# Altium schematic symbol library FTDI.SchLib: 3 symbols
Pins are listed as number, name and electrical type; pins without a type are passive.

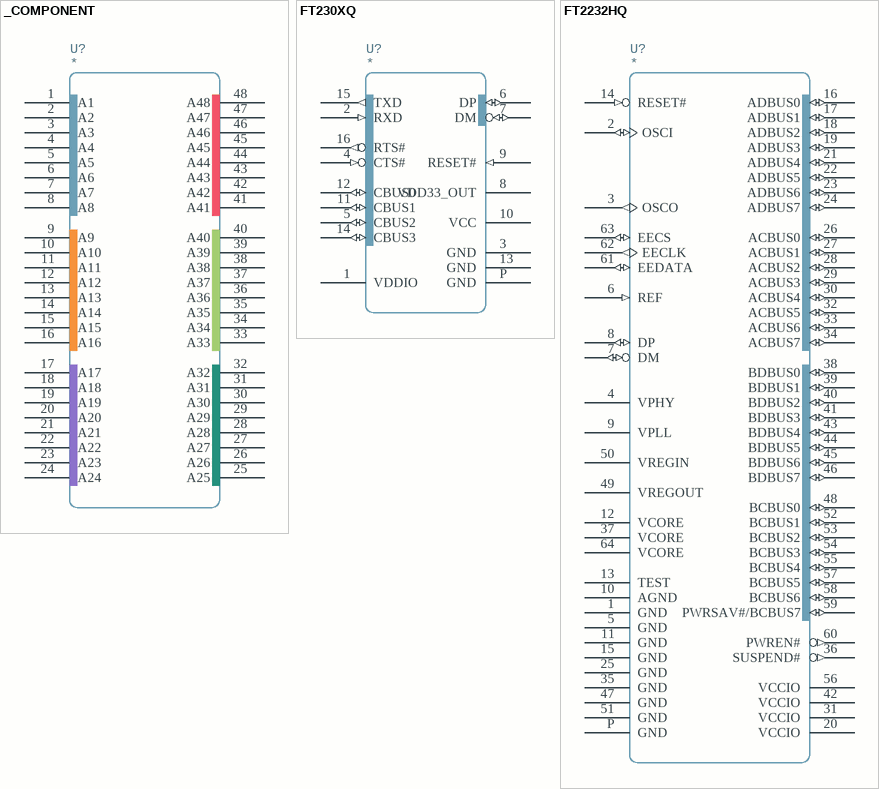
[diagram p0: symbols _COMPONENT to FT2232HQ]

## _COMPONENT
designator U?
pins: 1 A1, 2 A2, 3 A3, 4 A4, 5 A5, 6 A6, 7 A7, 8 A8, 9 A9, 10 A10, 11 A11, 12 A12, 13 A13, 14 A14, 15 A15, 16 A16, 17 A17, 18 A18, 19 A19, 20 A20, 21 A21, 22 A22, 23 A23, 24 A24, 25 A25, 26 A26, 27 A27, 28 A28, 29 A29, 30 A30, 31 A31, 32 A32, 33 A33, 34 A34, 35 A35, 36 A36, 37 A37, 38 A38, 39 A39, 40 A40, 41 A41, 42 A42, 43 A43, 44 A44, 45 A45, 46 A46, 47 A47, 48 A48

## FT230XQ
designator U?
pins: 1 VDDIO, 2 RXD (in), 3 GND, 4 CTS# (in), 5 CBUS2 (io), 6 DP (io), 7 DM (io), 8 VDD33_OUT (power), 9 RESET# (in), 10 VCC, 11 CBUS1 (io), 12 CBUS0 (io), 13 GND, 14 CBUS3 (io), 15 TXD (out), 16 RTS# (out), P GND

## FT2232HQ
designator U?
pins: 1 GND, 2 OSCI (io), 3 OSCO (out), 4 VPHY, 5 GND, 6 REF (in), 7 DM (io), 8 DP (io), 9 VPLL, 10 AGND, 11 GND, 12 VCORE, 13 TEST, 14 RESET# (in), 15 GND, 16 ADBUS0 (io), 17 ADBUS1 (io), 18 ADBUS2 (io), 19 ADBUS3 (io), 20 VCCIO, 21 ADBUS4 (io), 22 ADBUS5 (io), 23 ADBUS6 (io), 24 ADBUS7 (io), 25 GND, 26 ACBUS0 (io), 27 ACBUS1 (io), 28 ACBUS2 (io), 29 ACBUS3 (io), 30 ACBUS4 (io), 31 VCCIO, 32 ACBUS5 (io), 33 ACBUS6 (io), 34 ACBUS7 (io), 35 GND, 36 SUSPEND# (out), 37 VCORE, 38 BDBUS0 (io), 39 BDBUS1 (io), 40 BDBUS2 (io), 41 BDBUS3 (io), 42 VCCIO, 43 BDBUS4 (io), 44 BDBUS5 (io), 45 BDBUS6 (io), 46 BDBUS7 (io), 47 GND, 48 BCBUS0 (io), 49 VREGOUT, 50 VREGIN, 51 GND, 52 BCBUS1 (io), 53 BCBUS2 (io), 54 BCBUS3 (io), 55 BCBUS4 (io), 56 VCCIO, 57 BCBUS5 (io), 58 BCBUS6 (io), 59 PWRSAV#/BCBUS7 (io), 60 PWREN# (out), 61 EEDATA (io), 62 EECLK (out), 63 EECS (io), 64 VCORE, P GND